# EAGLE library part GAN_CC_ARRAY_SENSOR_REF_ELEC_SCHOTTKY (library Jeremy_GaN)
2018 New constant current array
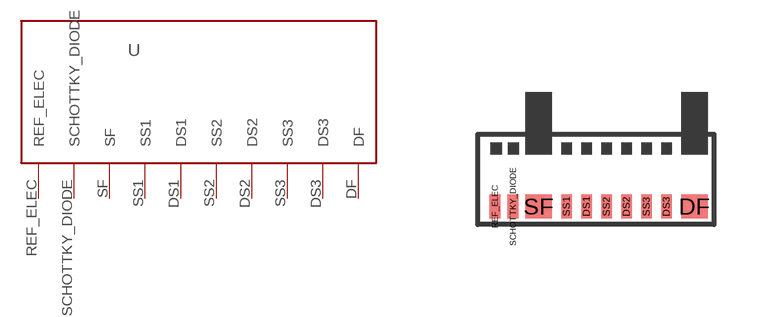
[diagram p2: symbol with the pads of GAN_CC_ARRAY_SENSOR_REFELEC_SCHOTTKY; footprint GAN_CC_ARRAY_SENSOR_REFELEC_SCHOTTKY]

Designator prefix -

## GAN_CC_ARRAY_SENSOR_REF_ELEC_SCHOTTKY, GAN_CC_ARRAY_SENSOR_REF_ELEC_SCHOTTKYGAN  [GAN_CC_ARRAY_SENSOR_REFELEC_SCHOTTKY]
DF  DF  pwr
DS1  DS1
DS2  DS2
DS3  DS3
REF_ELEC  REF_ELEC
SCHOTTKY_DIODE  SCHOTTKY_DIODE
SF  SF  pwr
SS1  SS1
SS2  SS2
SS3  SS3

## Footprint GAN_CC_ARRAY_SENSOR_REFELEC_SCHOTTKY (pad centres in mm)
GaN constant current array sensor pads (two for power, and three pairs of sense terminals).
smd 0.66 x 0.6: DF 4.23,0; SF 0.33,0
smd 0.26 x 0.6: DS1 1.53,0; DS2 2.53,0; DS3 3.53,0; SS1 1.03,0; SS2 2.03,0; SS3 3.03,0
smd 0.28 x 0.6: REF_ELEC -0.76,0; SCHOTTKY_DIODE -0.31,0